# Altium schematic symbol library STEVALSTLCS01V1.SchLib: 1 symbol
Pins are listed as number, name and electrical type; pins without a type are passive.

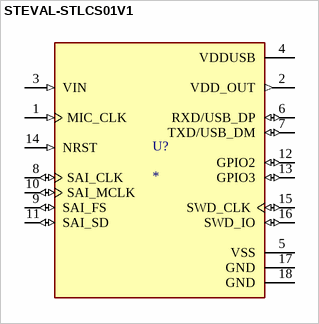
[diagram p0: symbol STEVAL-STLCS01V1]

## STEVAL-STLCS01V1
designator U?
Evaluation kit based on the STM32L476JGY6TR, LSM303AGRTR, LSM6DSMTR, BlueNRG-MSCSP, LPS22HBTR, MP34DT04 and BALF-NRG; MP: STEVAL-STLCS01V1; MF: {'manufacturer': u'STMicroelectronics'}; Value: *; Package: None; Price: None; Availability: Unavailable
footprint MODULE_STEVAL-STLCS01V1
pins: 1 MIC_CLK (in), 2 VDD_OUT (out), 3 VIN (in), 4 VDDUSB (power), 5 VSS (power), 6 RXD/USB_DP (io), 7 TXD/USB_DM (io), 8 SAI_CLK (io), 9 SAI_FS (io), 10 SAI_MCLK (io), 11 SAI_SD (io), 12 GPIO2 (io), 13 GPIO3 (io), 14 NRST (in), 15 SWD_CLK (io), 16 SWD_IO (io), 17 GND (power), 18 GND (power)